# EAGLE library part LSM303D (library pixhawk2)
LSM303D Ultra compact high performance e-compass: 3D accelerometer and 3D magnetometer module
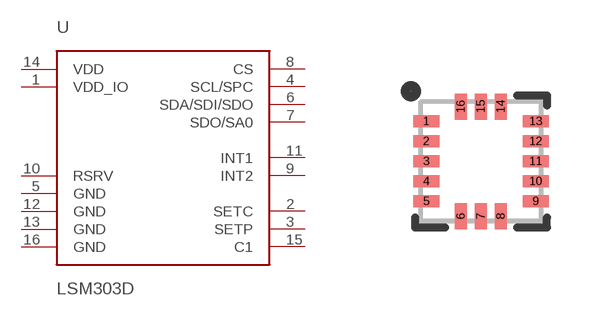
[diagram p74: symbol with the pads of LGA-16L; footprint LGA-16L]

Designator prefix -

## LSM303D (DATASHEET: http://www.st.com/internet/com/TECHNICAL_RESOURCES/TECHNICAL_LITERATURE/DATASHEET/DM00057547.pdf; LINK: http://www.st.com/internet/analog/product/253884.jsp; MFGPN: LSM303D)  [LGA-16L]
1  VDD_IO
2  SETC
3  SETP
4  SCL/SPC
5  GND
6  SDA/SDI/SDO
7  SDO/SA0
8  CS
9  INT2
10  RSRV
11  INT1
12  GND
13  GND
14  VDD
15  C1
16  GND

## Footprint LGA-16L (pad centres in mm)
smd 0.65 x 0.3: 1 -1.37,1; 2 -1.37,0.5; 3 -1.37,0; 4 -1.37,-0.5; 5 -1.37,-1; 9 1.37,-1; 10 1.37,-0.5; 11 1.37,0; 12 1.37,0.5; 13 1.37,1
smd 0.3 x 0.65: 6 -0.5,-1.37; 7 0,-1.37; 8 0.5,-1.37; 14 0.5,1.37; 15 0,1.37; 16 -0.5,1.37